# Altium footprint library Package_TO_SOT_THT.PcbLib: 236 footprints (part 9 of 15)
Each footprint in its own frame and in the unit in brackets; x right, y up, seen from the top. Pads: shape width x height; smd on the part's side, far side on the other; paste and mask are expansions set on the pad; w line width, h text height; cw(c..) or ccw(c..) is an arc to the next point about the centre after c.
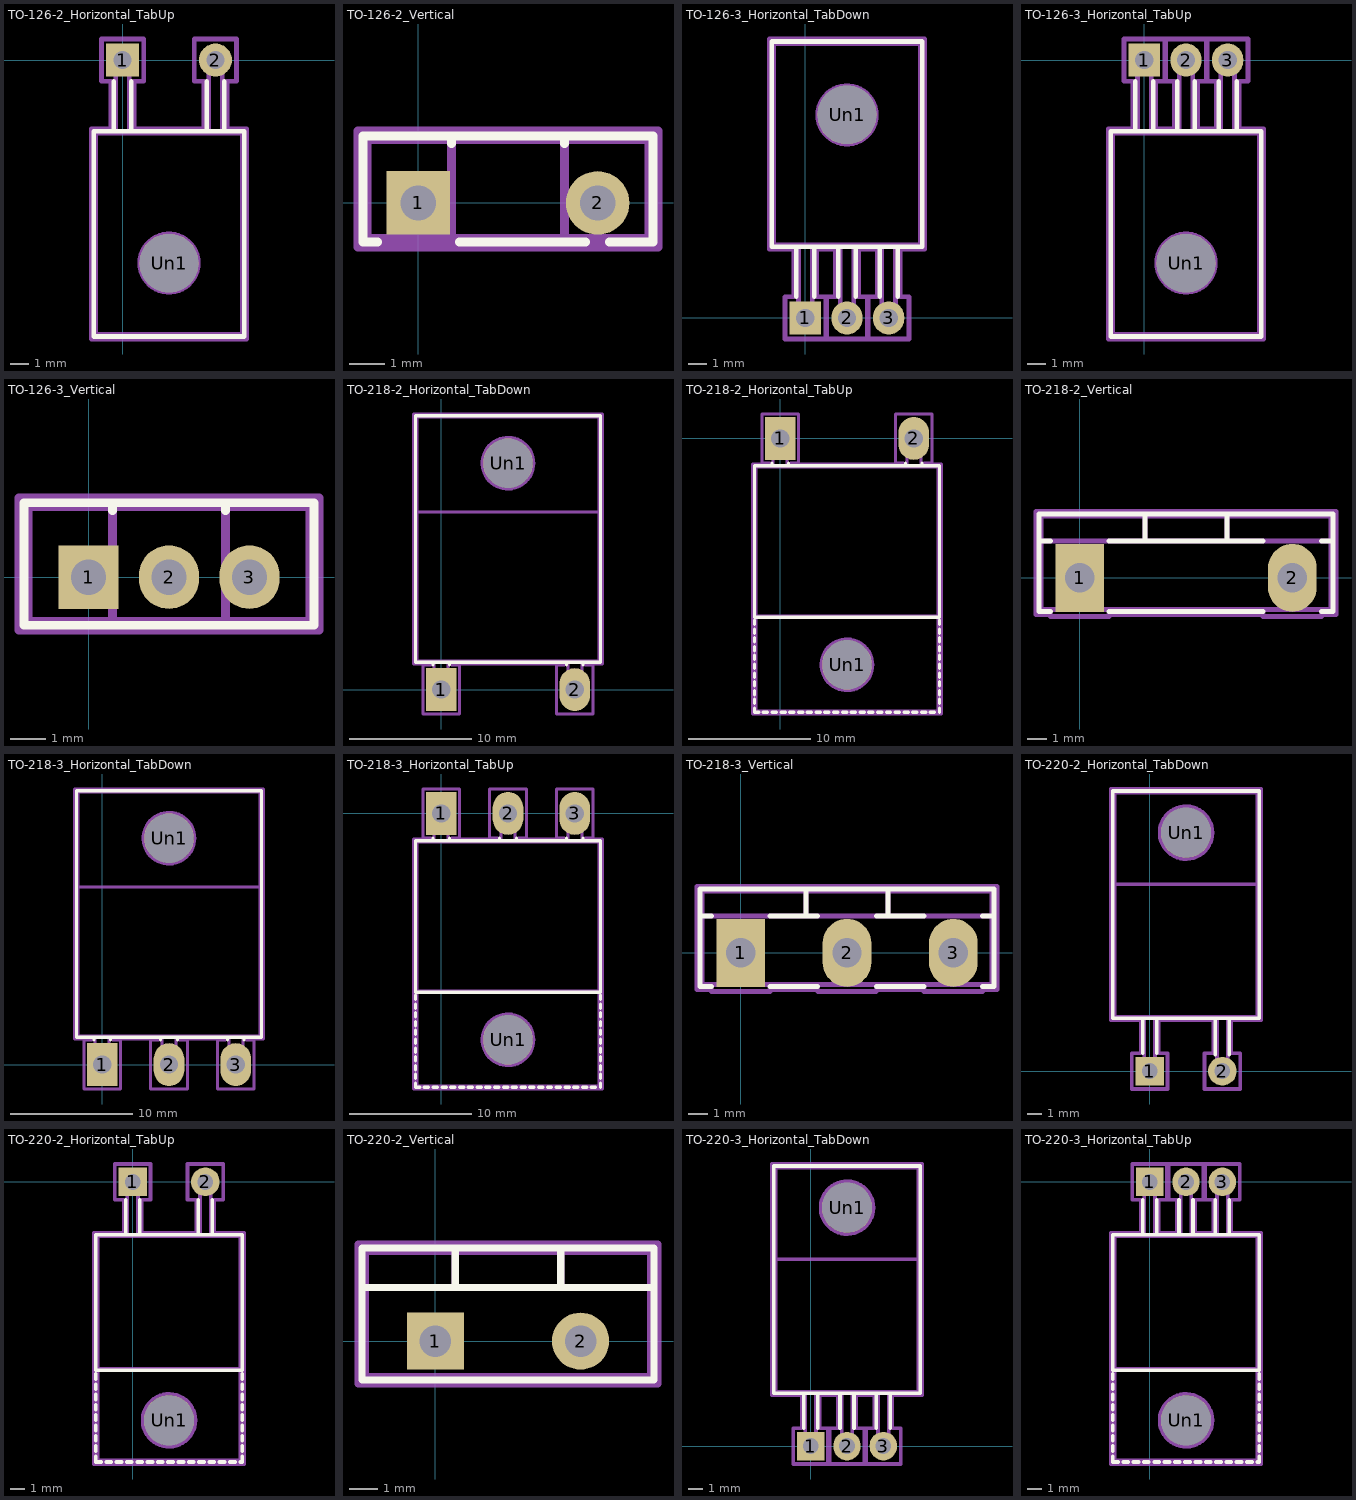
[diagram p8: the footprints below, top view; thin cyan lines are the x and y axes]

## TO-126-2_Horizontal_TabUp [mm]
pads (3):
  rect 1.8x1.8 hole 1: 1(0,0)
  round 1.8 hole 1: 2(5.08,0)
  round 3.2 hole 3.2: Un1(2.54,-11.1)
F.SilkS:
  lines w0.254: -0.485,-3.89 -0.485,-1.16 ; 0.485,-3.89 0.485,-1.16 ; 4.595,-3.89 4.595,-1.16 ; 5.565,-3.89 5.565,-1.16 ; -1.57,-15.11 6.65,-15.11 6.65,-3.89 -1.57,-3.89 -1.57,-15.11
F.Fab:
  circle w0.254: c2.54,-11.1 r1.6
  lines w0.254: -1.46,-15 6.54,-15 6.54,-4 -1.46,-4 -1.46,-15 ; -0.375,-4 0.375,-4 0.375,0 -0.375,0 -0.375,-4 ; 4.705,-4 5.455,-4 5.455,0 4.705,0 4.705,-4
  text "'.Designator'" at -1.507,-7.89 h1
F.CrtYd:
  lines w0.254: -1.71,-15.25 6.79,-15.25 6.79,-3.75 5.71,-3.75 5.71,-1.15 6.23,-1.15 6.23,1.15 3.92,1.15 3.92,-1.15 4.45,-1.15 4.45,-3.75 0.63,-3.75 0.63,-1.15 1.15,-1.15 1.15,1.15 -1.15,1.15 -1.15,-1.15 -0.63,-1.15 -0.63,-3.75 -1.71,-3.75 -1.71,-15.25

## TO-126-2_Vertical [mm]
pads (2):
  rect 1.8x1.8 hole 1: 1(0,0)
  round 1.8 hole 1: 2(5.08,0)
F.SilkS:
  lines w0.254: -1.16,-1.11 -1.57,-1.11 -1.57,1.9 6.65,1.9 6.65,-1.11 5.417,-1.11 ; 0.94,1.68 0.94,1.9 ; 1.16,-1.11 4.743,-1.11 ; 4.14,1.68 4.14,1.9
F.Fab:
  lines w0.254: 0.94,-1 0.94,1.79 ; 4.14,-1 4.14,1.79 ; -1.46,-1 -1.46,1.79 6.54,1.79 6.54,-1 -1.46,-1
  text "'.Designator'" at -1.507,-0.44 h1
F.CrtYd:
  lines w0.254: -1.71,-1.25 -1.71,2.04 6.79,2.04 6.79,-1.25 -1.71,-1.25
3D body "TO-126-2_Vertical.step": height 14, standoff -9.75, extent -1.46,-1 6.54,1.79

## TO-126-3_Horizontal_TabDown [mm]
pads (4):
  rect 1.71x1.8 hole 1: 1(0,0)
  rrect100% 1.71x1.8 hole 1: 2(2.28,0) 3(4.56,0)
  round 3.2 hole 3.2: Un1(2.28,11.1)
F.SilkS:
  lines w0.254: -0.485,1.16 -0.485,3.89 ; 0.485,1.16 0.485,3.89 ; 1.795,1.16 1.795,3.89 ; 2.765,1.16 2.765,3.89 ; 4.075,1.16 4.075,3.89 ; 5.045,1.16 5.045,3.89 ; -1.83,3.89 6.39,3.89 6.39,15.11 -1.83,15.11 -1.83,3.89
F.Fab:
  circle w0.254: c2.28,11.1 r1.6
  lines w0.254: -1.72,4 6.28,4 6.28,15 -1.72,15 -1.72,4 ; -0.375,0 0.375,0 0.375,4 -0.375,4 -0.375,0 ; 1.905,0 2.655,0 2.655,4 1.905,4 1.905,0 ; 4.185,0 4.935,0 4.935,4 4.185,4 4.185,0
  text "'.Designator'" at -1.767,6.21 h1
F.CrtYd:
  lines w0.254: -1.97,3.75 -0.63,3.75 -0.63,1.15 -1.11,1.15 -1.11,-1.15 1.11,-1.15 1.11,1.15 0.63,1.15 0.63,3.75 1.65,3.75 1.65,1.15 1.17,1.15 1.17,-1.15 3.39,-1.15 3.39,1.15 2.91,1.15 2.91,3.75 3.93,3.75 3.93,1.15 3.45,1.15 3.45,-1.15 5.67,-1.15 5.67,1.15 5.19,1.15 5.19,3.75 6.53,3.75 6.53,15.25 -1.97,15.25 -1.97,3.75

## TO-126-3_Horizontal_TabUp [mm]
pads (4):
  rect 1.71x1.8 hole 1: 1(0,0)
  rrect100% 1.71x1.8 hole 1: 2(2.28,0) 3(4.56,0)
  round 3.2 hole 3.2: Un1(2.28,-11.1)
F.SilkS:
  lines w0.254: -0.485,-3.89 -0.485,-1.16 ; 0.485,-3.89 0.485,-1.16 ; 1.795,-3.89 1.795,-1.16 ; 2.765,-3.89 2.765,-1.16 ; 4.075,-3.89 4.075,-1.16 ; 5.045,-3.89 5.045,-1.16 ; -1.83,-15.11 6.39,-15.11 6.39,-3.89 -1.83,-3.89 -1.83,-15.11
F.Fab:
  circle w0.254: c2.28,-11.1 r1.6
  lines w0.254: -1.72,-15 6.28,-15 6.28,-4 -1.72,-4 -1.72,-15 ; -0.375,-4 0.375,-4 0.375,0 -0.375,0 -0.375,-4 ; 1.905,-4 2.655,-4 2.655,0 1.905,0 1.905,-4 ; 4.185,-4 4.935,-4 4.935,0 4.185,0 4.185,-4
  text "'.Designator'" at -1.767,-7.89 h1
F.CrtYd:
  lines w0.254: -1.97,-15.25 6.53,-15.25 6.53,-3.75 5.19,-3.75 5.19,-1.15 5.67,-1.15 5.67,1.15 3.45,1.15 3.45,-1.15 3.93,-1.15 3.93,-3.75 2.91,-3.75 2.91,-1.15 3.39,-1.15 3.39,1.15 1.17,1.15 1.17,-1.15 1.65,-1.15 1.65,-3.75 0.63,-3.75 0.63,-1.15 1.11,-1.15 1.11,1.15 -1.11,1.15 -1.11,-1.15 -0.63,-1.15 -0.63,-3.75 -1.97,-3.75 -1.97,-15.25

## TO-126-3_Vertical [mm]
pads (3):
  rect 1.71x1.8 hole 1: 1(0,0)
  rrect100% 1.71x1.8 hole 1: 2(2.28,0) 3(4.56,0)
F.SilkS:
  lines w0.254: 0.68,1.89 0.68,2.11 ; 3.88,1.89 3.88,2.11 ; -1.83,-1.36 -1.83,2.11 6.39,2.11 6.39,-1.36 -1.83,-1.36
F.Fab:
  lines w0.254: 0.68,-1.25 0.68,2 ; 3.88,-1.25 3.88,2 ; -1.72,-1.25 -1.72,2 6.28,2 6.28,-1.25 -1.72,-1.25
  text "'.Designator'" at -1.767,-0.46 h1
F.CrtYd:
  lines w0.254: -1.97,-1.5 -1.97,2.25 6.53,2.25 6.53,-1.5 -1.97,-1.5
3D body "TO-126-3_Vertical.step": height 14, standoff -9.75, extent -1.72,-1.25 6.28,2

## TO-218-2_Horizontal_TabDown [mm]
pads (3):
  rect 2.5x3.5 hole 1.5: 1(0,0)
  rrect100% 2.5x3.5 hole 1.5: 2(10.95,0)
  round 4.04 hole 4.04: Un1(5.475,18.55)
F.SilkS:
  lines w0.254: -0.685,2.01 -0.685,2.24 ; 0.685,2.01 0.685,2.24 ; 10.265,2.01 10.265,2.24 ; 11.635,2.01 11.635,2.24 ; -2.105,2.24 13.055,2.24 13.055,22.44 -2.105,22.44 -2.105,2.24
F.Fab:
  circle w0.254: c5.475,18.55 r2.115
  lines w0.254: -1.995,14.54 12.945,14.54 ; -1.995,14.54 -1.995,2.35 12.945,2.35 12.945,14.54 ; -1.995,14.54 12.945,14.54 ; -1.995,14.54 -1.995,22.33 12.945,22.33 12.945,14.54 ; -0.575,0 0.575,0 0.575,2.35 -0.575,2.35 -0.575,0 ; 10.375,0 11.525,0 11.525,2.35 10.375,2.35 10.375,0
  text "'.Designator'" at 1.433,9.45 h1
F.CrtYd:
  lines w0.254: -2.25,2.1 -0.83,2.1 -0.83,2 -1.5,2 -1.5,-2 1.5,-2 1.5,2 0.83,2 0.83,2.1 10.12,2.1 10.12,2 9.45,2 9.45,-2 12.45,-2 12.45,2 11.78,2 11.78,2.1 13.2,2.1 13.2,22.58 -2.25,22.58 -2.25,2.1

## TO-218-2_Horizontal_TabUp [mm]
pads (3):
  rect 2.5x3.5 hole 1.5: 1(0,0)
  rrect100% 2.5x3.5 hole 1.5: 2(10.95,0)
  round 4.04 hole 4.04: Un1(5.475,-18.55)
F.SilkS:
  lines w0.254: -2.105,-22.09 -2.105,-22.44 -1.745,-22.44 ; -2.105,-21.73 -2.105,-21.37 ; -2.105,-21.01 -2.105,-20.65 ; -2.105,-20.29 -2.105,-19.93 ; -2.105,-19.57 -2.105,-19.21 ; -2.105,-18.85 -2.105,-18.49 ; -2.105,-18.13 -2.105,-17.77 ; -2.105,-17.41 -2.105,-17.05 ; -2.105,-16.69 -2.105,-16.33 ; -2.105,-15.97 -2.105,-15.61 ; -2.105,-15.25 -2.105,-14.89 ; -1.385,-22.44 -1.025,-22.44 ; -0.685,-2.24 -0.685,-2.01 ; -0.665,-22.44 -0.305,-22.44 ; 0.055,-22.44 0.415,-22.44 ; 0.685,-2.24 0.685,-2.01 ; 0.775,-22.44 1.135,-22.44 ; 1.495,-22.44 1.855,-22.44 ; 2.215,-22.44 2.575,-22.44 ; 2.935,-22.44 3.295,-22.44 ; 3.655,-22.44 4.015,-22.44 ; 4.375,-22.44 4.735,-22.44 ; 5.095,-22.44 5.455,-22.44 ; 5.815,-22.44 6.175,-22.44 ; 6.535,-22.44 6.895,-22.44 ; 7.255,-22.44 7.615,-22.44 ; 7.975,-22.44 8.335,-22.44 ; 8.695,-22.44 9.055,-22.44 ; 9.415,-22.44 9.775,-22.44 ; 10.135,-22.44 10.495,-22.44 ; 10.265,-2.24 10.265,-2.01 ; 10.855,-22.44 11.215,-22.44 ; 11.575,-22.44 11.935,-22.44 ; 11.635,-2.24 11.635,-2.01 ; 12.295,-22.44 12.655,-22.44 ; 13.055,-22.44 13.055,-22.09 ; 13.055,-21.73 13.055,-21.37 ; 13.055,-21.01 13.055,-20.65 ; 13.055,-20.29 13.055,-19.93 ; 13.055,-19.57 13.055,-19.21 ; 13.055,-18.85 13.055,-18.49 ; 13.055,-18.13 13.055,-17.77 ; 13.055,-17.41 13.055,-17.05 ; 13.055,-16.69 13.055,-16.33 ; 13.055,-15.97 13.055,-15.61 ; 13.055,-15.25 13.055,-14.89 ; -2.105,-14.65 13.055,-14.65 13.055,-2.24 -2.105,-2.24 -2.105,-14.65
F.Fab:
  circle w0.254: c5.475,-18.55 r2.115
  lines w0.254: -1.995,-14.54 12.945,-14.54 ; -1.995,-14.54 -1.995,-22.33 12.945,-22.33 12.945,-14.54 ; -1.995,-14.54 12.945,-14.54 ; -1.995,-14.54 -1.995,-2.35 12.945,-2.35 12.945,-14.54 ; -0.575,-2.35 0.575,-2.35 0.575,0 -0.575,0 -0.575,-2.35 ; 10.375,-2.35 11.525,-2.35 11.525,0 10.375,0 10.375,-2.35
  text "'.Designator'" at 1.433,-11.13 h1
F.CrtYd:
  lines w0.254: -2.25,-22.58 13.2,-22.58 13.2,-2.1 11.78,-2.1 11.78,-2 12.45,-2 12.45,2 9.45,2 9.45,-2 10.12,-2 10.12,-2.1 0.83,-2.1 0.83,-2 1.5,-2 1.5,2 -1.5,2 -1.5,-2 -0.83,-2 -0.83,-2.1 -2.25,-2.1 -2.25,-22.58

## TO-218-2_Vertical [mm]
pads (2):
  rect 2.5x3.5 hole 1.5: 1(0,0)
  rrect100% 2.5x3.5 hole 1.5: 2(10.95,0)
F.SilkS:
  lines w0.254: -2.105,1.9 -1.51,1.9 ; -1.51,-1.74 -2.105,-1.74 -2.105,3.28 13.055,3.28 13.055,-1.74 12.46,-1.74 ; 1.51,-1.74 9.44,-1.74 ; 1.51,1.9 9.44,1.9 ; 3.36,1.9 3.36,3.28 ; 7.59,1.9 7.59,3.28 ; 12.46,1.9 13.055,1.9
F.Fab:
  lines w0.254: -1.995,1.9 12.945,1.9 ; 3.36,1.9 3.36,3.17 ; 7.59,1.9 7.59,3.17 ; -1.995,-1.63 -1.995,3.17 12.945,3.17 12.945,-1.63 -1.995,-1.63
  text "'.Designator'" at 1.433,-0.07 h1
F.CrtYd:
  lines w0.254: -2.25,-1.88 -2.25,3.42 13.2,3.42 13.2,-1.88 12.45,-1.88 12.45,-2 9.45,-2 9.45,-1.88 1.5,-1.88 1.5,-2 -1.5,-2 -1.5,-1.88 -2.25,-1.88
3D body "TO-218-2_Vertical.step": height 22.35, standoff -9.75, extent -2.005,-1.65 12.955,3.17

## TO-218-3_Horizontal_TabDown [mm]
pads (4):
  rect 2.5x3.5 hole 1.5: 1(0,0)
  rrect100% 2.5x3.5 hole 1.5: 2(5.475,0) 3(10.95,0)
  round 4.04 hole 4.04: Un1(5.475,18.55)
F.SilkS:
  lines w0.254: -0.685,2.01 -0.685,2.24 ; 0.685,2.01 0.685,2.24 ; 4.79,2.01 4.79,2.24 ; 6.16,2.01 6.16,2.24 ; 10.265,2.01 10.265,2.24 ; 11.635,2.01 11.635,2.24 ; -2.105,2.24 13.055,2.24 13.055,22.44 -2.105,22.44 -2.105,2.24
F.Fab:
  circle w0.254: c5.475,18.55 r2.115
  lines w0.254: -1.995,14.54 12.945,14.54 ; -1.995,14.54 -1.995,2.35 12.945,2.35 12.945,14.54 ; -1.995,14.54 12.945,14.54 ; -1.995,14.54 -1.995,22.33 12.945,22.33 12.945,14.54 ; -0.575,0 0.575,0 0.575,2.35 -0.575,2.35 -0.575,0 ; 4.9,0 6.05,0 6.05,2.35 4.9,2.35 4.9,0 ; 10.375,0 11.525,0 11.525,2.35 10.375,2.35 10.375,0
  text "'.Designator'" at 1.433,9.45 h1
F.CrtYd:
  lines w0.254: -2.25,2.1 -0.83,2.1 -0.83,2 -1.5,2 -1.5,-2 1.5,-2 1.5,2 0.83,2 0.83,2.1 4.64,2.1 4.64,2 3.97,2 3.97,-2 6.98,-2 6.98,2 6.3,2 6.3,2.1 10.12,2.1 10.12,2 9.45,2 9.45,-2 12.45,-2 12.45,2 11.78,2 11.78,2.1 13.2,2.1 13.2,22.58 -2.25,22.58 -2.25,2.1

## TO-218-3_Horizontal_TabUp [mm]
pads (4):
  rect 2.5x3.5 hole 1.5: 1(0,0)
  rrect100% 2.5x3.5 hole 1.5: 2(5.475,0) 3(10.95,0)
  round 4.04 hole 4.04: Un1(5.475,-18.55)
F.SilkS:
  lines w0.254: -2.105,-22.09 -2.105,-22.44 -1.745,-22.44 ; -2.105,-21.73 -2.105,-21.37 ; -2.105,-21.01 -2.105,-20.65 ; -2.105,-20.29 -2.105,-19.93 ; -2.105,-19.57 -2.105,-19.21 ; -2.105,-18.85 -2.105,-18.49 ; -2.105,-18.13 -2.105,-17.77 ; -2.105,-17.41 -2.105,-17.05 ; -2.105,-16.69 -2.105,-16.33 ; -2.105,-15.97 -2.105,-15.61 ; -2.105,-15.25 -2.105,-14.89 ; -1.385,-22.44 -1.025,-22.44 ; -0.685,-2.24 -0.685,-2.01 ; -0.665,-22.44 -0.305,-22.44 ; 0.055,-22.44 0.415,-22.44 ; 0.685,-2.24 0.685,-2.01 ; 0.775,-22.44 1.135,-22.44 ; 1.495,-22.44 1.855,-22.44 ; 2.215,-22.44 2.575,-22.44 ; 2.935,-22.44 3.295,-22.44 ; 3.655,-22.44 4.015,-22.44 ; 4.375,-22.44 4.735,-22.44 ; 4.79,-2.24 4.79,-2.01 ; 5.095,-22.44 5.455,-22.44 ; 5.815,-22.44 6.175,-22.44 ; 6.16,-2.24 6.16,-2.01 ; 6.535,-22.44 6.895,-22.44 ; 7.255,-22.44 7.615,-22.44 ; 7.975,-22.44 8.335,-22.44 ; 8.695,-22.44 9.055,-22.44 ; 9.415,-22.44 9.775,-22.44 ; 10.135,-22.44 10.495,-22.44 ; 10.265,-2.24 10.265,-2.01 ; 10.855,-22.44 11.215,-22.44 ; 11.575,-22.44 11.935,-22.44 ; 11.635,-2.24 11.635,-2.01 ; 12.295,-22.44 12.655,-22.44 ; 13.055,-22.44 13.055,-22.09 ; 13.055,-21.73 13.055,-21.37 ; 13.055,-21.01 13.055,-20.65 ; 13.055,-20.29 13.055,-19.93 ; 13.055,-19.57 13.055,-19.21 ; 13.055,-18.85 13.055,-18.49 ; 13.055,-18.13 13.055,-17.77 ; 13.055,-17.41 13.055,-17.05 ; 13.055,-16.69 13.055,-16.33 ; 13.055,-15.97 13.055,-15.61 ; 13.055,-15.25 13.055,-14.89 ; -2.105,-14.65 13.055,-14.65 13.055,-2.24 -2.105,-2.24 -2.105,-14.65
F.Fab:
  circle w0.254: c5.475,-18.55 r2.115
  lines w0.254: -1.995,-14.54 12.945,-14.54 ; -1.995,-14.54 -1.995,-22.33 12.945,-22.33 12.945,-14.54 ; -1.995,-14.54 12.945,-14.54 ; -1.995,-14.54 -1.995,-2.35 12.945,-2.35 12.945,-14.54 ; -0.575,-2.35 0.575,-2.35 0.575,0 -0.575,0 -0.575,-2.35 ; 4.9,-2.35 6.05,-2.35 6.05,0 4.9,0 4.9,-2.35 ; 10.375,-2.35 11.525,-2.35 11.525,0 10.375,0 10.375,-2.35
  text "'.Designator'" at 1.433,-11.13 h1
F.CrtYd:
  lines w0.254: -2.25,-22.58 13.2,-22.58 13.2,-2.1 11.78,-2.1 11.78,-2 12.45,-2 12.45,2 9.45,2 9.45,-2 10.12,-2 10.12,-2.1 6.3,-2.1 6.3,-2 6.98,-2 6.98,2 3.97,2 3.97,-2 4.64,-2 4.64,-2.1 0.83,-2.1 0.83,-2 1.5,-2 1.5,2 -1.5,2 -1.5,-2 -0.83,-2 -0.83,-2.1 -2.25,-2.1 -2.25,-22.58

## TO-218-3_Vertical [mm]
pads (3):
  rect 2.5x3.5 hole 1.5: 1(0,0)
  rrect100% 2.5x3.5 hole 1.5: 2(5.475,0) 3(10.95,0)
F.SilkS:
  lines w0.254: -2.105,1.9 -1.51,1.9 ; -1.51,-1.74 -2.105,-1.74 -2.105,3.28 13.055,3.28 13.055,-1.74 12.46,-1.74 ; 1.51,-1.74 3.965,-1.74 ; 1.51,1.9 3.965,1.9 ; 3.36,1.9 3.36,3.28 ; 6.985,-1.74 9.44,-1.74 ; 6.985,1.9 9.44,1.9 ; 7.59,1.9 7.59,3.28 ; 12.46,1.9 13.055,1.9
F.Fab:
  lines w0.254: -1.995,1.9 12.945,1.9 ; 3.36,1.9 3.36,3.17 ; 7.59,1.9 7.59,3.17 ; -1.995,-1.63 -1.995,3.17 12.945,3.17 12.945,-1.63 -1.995,-1.63
  text "'.Designator'" at 1.433,-0.07 h1
F.CrtYd:
  lines w0.254: -2.25,-1.88 -2.25,3.42 13.2,3.42 13.2,-1.88 12.45,-1.88 12.45,-2 9.45,-2 9.45,-1.88 6.98,-1.88 6.98,-2 3.97,-2 3.97,-1.88 1.5,-1.88 1.5,-2 -1.5,-2 -1.5,-1.88 -2.25,-1.88
3D body "TO-218-3_Vertical.step": height 22.35, standoff -9.75, extent -2.005,-1.65 12.955,3.17

## TO-220-2_Horizontal_TabDown [mm]
pads (3):
  rect 2x2 hole 1.1: 1(0,0)
  round 2 hole 1.1: 2(5.08,0)
  round 3.5 hole 3.5: Un1(2.54,16.66)
F.SilkS:
  lines w0.254: -0.485,1.26 -0.485,3.7 ; 0.485,1.26 0.485,3.7 ; 4.595,1.163 4.595,3.7 ; 5.565,1.163 5.565,3.7 ; -2.57,3.7 7.65,3.7 7.65,19.57 -2.57,19.57 -2.57,3.7
F.Fab:
  circle w0.254: c2.54,16.66 r1.85
  lines w0.254: -2.46,13.06 7.54,13.06 ; -2.46,13.06 -2.46,3.81 7.54,3.81 7.54,13.06 ; -2.46,13.06 7.54,13.06 ; -2.46,13.06 -2.46,19.46 7.54,19.46 7.54,13.06 ; -0.375,0 0.375,0 0.375,3.81 -0.375,3.81 -0.375,0 ; 4.705,0 5.455,0 5.455,3.81 4.705,3.81 4.705,0
  text "'.Designator'" at -1.507,8.39 h1
F.CrtYd:
  lines w0.254: -2.71,3.56 -0.63,3.56 -0.63,1.25 -1.25,1.25 -1.25,-1.25 1.25,-1.25 1.25,1.25 0.63,1.25 0.63,3.56 4.45,3.56 4.45,1.25 3.83,1.25 3.83,-1.25 6.33,-1.25 6.33,1.25 5.71,1.25 5.71,3.56 7.79,3.56 7.79,19.71 -2.71,19.71 -2.71,3.56
3D body "TO-220-2_Horizontal_TabDown.step": height 4.44, standoff -6.33, extent -2.585,-0.262 7.665,19.475

## TO-220-2_Horizontal_TabUp [mm]
pads (3):
  rect 2x2 hole 1.1: 1(0,0)
  round 2 hole 1.1: 2(5.08,0)
  round 3.5 hole 3.5: Un1(2.54,-16.66)
F.SilkS:
  lines w0.254: -2.57,-19.57 -2.21,-19.57 ; -2.57,-19.53 -2.57,-19.17 ; -2.57,-18.81 -2.57,-18.45 ; -2.57,-18.09 -2.57,-17.73 ; -2.57,-17.37 -2.57,-17.01 ; -2.57,-16.65 -2.57,-16.29 ; -2.57,-15.93 -2.57,-15.57 ; -2.57,-15.21 -2.57,-14.85 ; -2.57,-14.49 -2.57,-14.13 ; -2.57,-13.77 -2.57,-13.41 ; -1.85,-19.57 -1.49,-19.57 ; -1.13,-19.57 -0.77,-19.57 ; -0.485,-3.7 -0.485,-1.26 ; -0.41,-19.57 -0.05,-19.57 ; 0.31,-19.57 0.67,-19.57 ; 0.485,-3.7 0.485,-1.26 ; 1.03,-19.57 1.39,-19.57 ; 1.75,-19.57 2.11,-19.57 ; 2.47,-19.57 2.83,-19.57 ; 3.19,-19.57 3.55,-19.57 ; 3.91,-19.57 4.27,-19.57 ; 4.595,-3.7 4.595,-1.26 ; 4.63,-19.57 4.99,-19.57 ; 5.35,-19.57 5.71,-19.57 ; 5.565,-3.7 5.565,-1.26 ; 6.07,-19.57 6.43,-19.57 ; 6.79,-19.57 7.15,-19.57 ; 7.51,-19.57 7.65,-19.57 ; 7.65,-19.53 7.65,-19.17 ; 7.65,-18.81 7.65,-18.45 ; 7.65,-18.09 7.65,-17.73 ; 7.65,-17.37 7.65,-17.01 ; 7.65,-16.65 7.65,-16.29 ; 7.65,-15.93 7.65,-15.57 ; 7.65,-15.21 7.65,-14.85 ; 7.65,-14.49 7.65,-14.13 ; 7.65,-13.77 7.65,-13.41 ; -2.57,-13.17 7.65,-13.17 7.65,-3.7 -2.57,-3.7 -2.57,-13.17
F.Fab:
  circle w0.254: c2.54,-16.66 r1.85
  lines w0.254: -2.46,-13.06 7.54,-13.06 ; -2.46,-13.06 -2.46,-19.46 7.54,-19.46 7.54,-13.06 ; -2.46,-13.06 7.54,-13.06 ; -2.46,-13.06 -2.46,-3.81 7.54,-3.81 7.54,-13.06 ; -0.375,-3.81 0.375,-3.81 0.375,0 -0.375,0 -0.375,-3.81 ; 4.705,-3.81 5.455,-3.81 5.455,0 4.705,0 4.705,-3.81
  text "'.Designator'" at -1.507,-10.07 h1
F.CrtYd:
  lines w0.254: -2.71,-19.71 7.79,-19.71 7.79,-3.56 5.71,-3.56 5.71,-1.25 6.33,-1.25 6.33,1.25 3.83,1.25 3.83,-1.25 4.45,-1.25 4.45,-3.56 0.63,-3.56 0.63,-1.25 1.25,-1.25 1.25,1.25 -1.25,1.25 -1.25,-1.25 -0.63,-1.25 -0.63,-3.56 -2.71,-3.56 -2.71,-19.71
3D body "TO-220-2_Horizontal_TabUp.step": height 4.45, standoff -8.13, extent -2.585,-19.475 7.665,0.262

## TO-220-2_Vertical [mm]
pads (2):
  rect 2x2 hole 1.1: 1(0,0)
  round 2 hole 1.1: 2(5.08,0)
F.SilkS:
  lines w0.254: -2.57,1.88 7.65,1.88 ; 0.69,1.88 0.69,3.26 ; 4.39,1.88 4.39,3.26 ; -2.57,-1.36 -2.57,3.26 7.65,3.26 7.65,-1.36 -2.57,-1.36
F.Fab:
  lines w0.254: -2.46,1.88 7.54,1.88 ; 0.69,1.88 0.69,3.15 ; 4.39,1.88 4.39,3.15 ; -2.46,-1.25 -2.46,3.15 7.54,3.15 7.54,-1.25 -2.46,-1.25
  text "'.Designator'" at -1.507,0.11 h1
F.CrtYd:
  lines w0.254: -2.71,-1.5 -2.71,3.4 7.79,3.4 7.79,-1.5 -2.71,-1.5
3D body "TO-220-2_Vertical.step": height 18.77, standoff -9.75, extent -2.585,-1.295 7.665,3.16

## TO-220-3_Horizontal_TabDown [mm]
pads (4):
  rect 1.905x2 hole 1.1: 1(0,0)
  rrect100% 1.905x2 hole 1.1: 2(2.54,0) 3(5.08,0)
  round 3.5 hole 3.5: Un1(2.54,16.66)
F.SilkS:
  lines w0.254: -0.485,1.26 -0.485,3.7 ; 0.485,1.26 0.485,3.7 ; 2.055,1.26 2.055,3.7 ; 3.025,1.26 3.025,3.7 ; 4.595,1.26 4.595,3.7 ; 5.565,1.26 5.565,3.7 ; -2.57,3.7 -2.57,19.57 7.65,19.57 7.65,3.7 -2.57,3.7
F.Fab:
  circle w0.254: c2.54,16.66 r1.85
  lines w0.254: -2.46,13.06 -2.46,19.46 7.54,19.46 7.54,13.06 ; -2.46,13.06 7.54,13.06 ; -2.46,13.06 -2.46,3.81 7.54,3.81 7.54,13.06 ; -2.46,13.06 7.54,13.06 ; -0.375,0 -0.375,3.81 0.375,3.81 0.375,0 -0.375,0 ; 2.165,0 2.165,3.81 2.915,3.81 2.915,0 2.165,0 ; 4.705,0 4.705,3.81 5.455,3.81 5.455,0 4.705,0
  text "'.Designator'" at -1.507,8.39 h1
F.CrtYd:
  lines w0.254: -2.71,3.56 -2.71,19.71 7.79,19.71 7.79,3.56 5.71,3.56 5.71,1.25 6.29,1.25 6.29,-1.25 3.87,-1.25 3.87,1.25 4.45,1.25 4.45,3.56 3.17,3.56 3.17,1.25 3.75,1.25 3.75,-1.25 1.33,-1.25 1.33,1.25 1.91,1.25 1.91,3.56 0.63,3.56 0.63,1.25 1.21,1.25 1.21,-1.25 -1.21,-1.25 -1.21,1.25 -0.63,1.25 -0.63,3.56 -2.71,3.56
3D body "TO-220-3_Horizontal_TabDown.step": height 4.44, standoff -6.33, extent -2.585,-0.262 7.665,19.475

## TO-220-3_Horizontal_TabUp [mm]
pads (4):
  rect 1.905x2 hole 1.1: 1(0,0)
  rrect100% 1.905x2 hole 1.1: 2(2.54,0) 3(5.08,0)
  round 3.5 hole 3.5: Un1(2.54,-16.66)
F.SilkS:
  lines w0.254: -2.57,-19.57 -2.21,-19.57 ; -2.57,-19.53 -2.57,-19.17 ; -2.57,-18.81 -2.57,-18.45 ; -2.57,-18.09 -2.57,-17.73 ; -2.57,-17.37 -2.57,-17.01 ; -2.57,-16.65 -2.57,-16.29 ; -2.57,-15.93 -2.57,-15.57 ; -2.57,-15.21 -2.57,-14.85 ; -2.57,-14.49 -2.57,-14.13 ; -2.57,-13.77 -2.57,-13.41 ; -1.85,-19.57 -1.49,-19.57 ; -1.13,-19.57 -0.77,-19.57 ; -0.485,-3.7 -0.485,-1.26 ; -0.41,-19.57 -0.05,-19.57 ; 0.31,-19.57 0.67,-19.57 ; 0.485,-3.7 0.485,-1.26 ; 1.03,-19.57 1.39,-19.57 ; 1.75,-19.57 2.11,-19.57 ; 2.055,-3.7 2.055,-1.26 ; 2.47,-19.57 2.83,-19.57 ; 3.025,-3.7 3.025,-1.26 ; 3.19,-19.57 3.55,-19.57 ; 3.91,-19.57 4.27,-19.57 ; 4.595,-3.7 4.595,-1.26 ; 4.63,-19.57 4.99,-19.57 ; 5.35,-19.57 5.71,-19.57 ; 5.565,-3.7 5.565,-1.26 ; 6.07,-19.57 6.43,-19.57 ; 6.79,-19.57 7.15,-19.57 ; 7.51,-19.57 7.65,-19.57 ; 7.65,-19.53 7.65,-19.17 ; 7.65,-18.81 7.65,-18.45 ; 7.65,-18.09 7.65,-17.73 ; 7.65,-17.37 7.65,-17.01 ; 7.65,-16.65 7.65,-16.29 ; 7.65,-15.93 7.65,-15.57 ; 7.65,-15.21 7.65,-14.85 ; 7.65,-14.49 7.65,-14.13 ; 7.65,-13.77 7.65,-13.41 ; -2.57,-13.17 -2.57,-3.7 7.65,-3.7 7.65,-13.17 -2.57,-13.17
F.Fab:
  circle w0.254: c2.54,-16.66 r1.85
  lines w0.254: -2.46,-13.06 -2.46,-3.81 7.54,-3.81 7.54,-13.06 ; -2.46,-13.06 7.54,-13.06 ; -2.46,-13.06 -2.46,-19.46 7.54,-19.46 7.54,-13.06 ; -2.46,-13.06 7.54,-13.06 ; -0.375,-3.81 -0.375,0 0.375,0 0.375,-3.81 -0.375,-3.81 ; 2.165,-3.81 2.165,0 2.915,0 2.915,-3.81 2.165,-3.81 ; 4.705,-3.81 4.705,0 5.455,0 5.455,-3.81 4.705,-3.81
  text "'.Designator'" at -1.507,-10.07 h1
F.CrtYd:
  lines w0.254: -2.71,-19.71 -2.71,-3.56 -0.63,-3.56 -0.63,-1.25 -1.21,-1.25 -1.21,1.25 1.21,1.25 1.21,-1.25 0.63,-1.25 0.63,-3.56 1.91,-3.56 1.91,-1.25 1.33,-1.25 1.33,1.25 3.75,1.25 3.75,-1.25 3.17,-1.25 3.17,-3.56 4.45,-3.56 4.45,-1.25 3.87,-1.25 3.87,1.25 6.29,1.25 6.29,-1.25 5.71,-1.25 5.71,-3.56 7.79,-3.56 7.79,-19.71 -2.71,-19.71
3D body "TO-220-3_Horizontal_TabUp.step": height 4.45, standoff -8.13, extent -2.585,-19.475 7.665,0.262